# Altium footprint library jst.PcbLib: 39 footprints (part 2 of 3)
Each footprint in its own frame and in the unit in brackets; x right, y up, seen from the top. Pads: shape width x height; smd on the part's side, far side on the other; paste and mask are expansions set on the pad; w line width, h text height; cw(c..) or ccw(c..) is an arc to the next point about the centre after c.
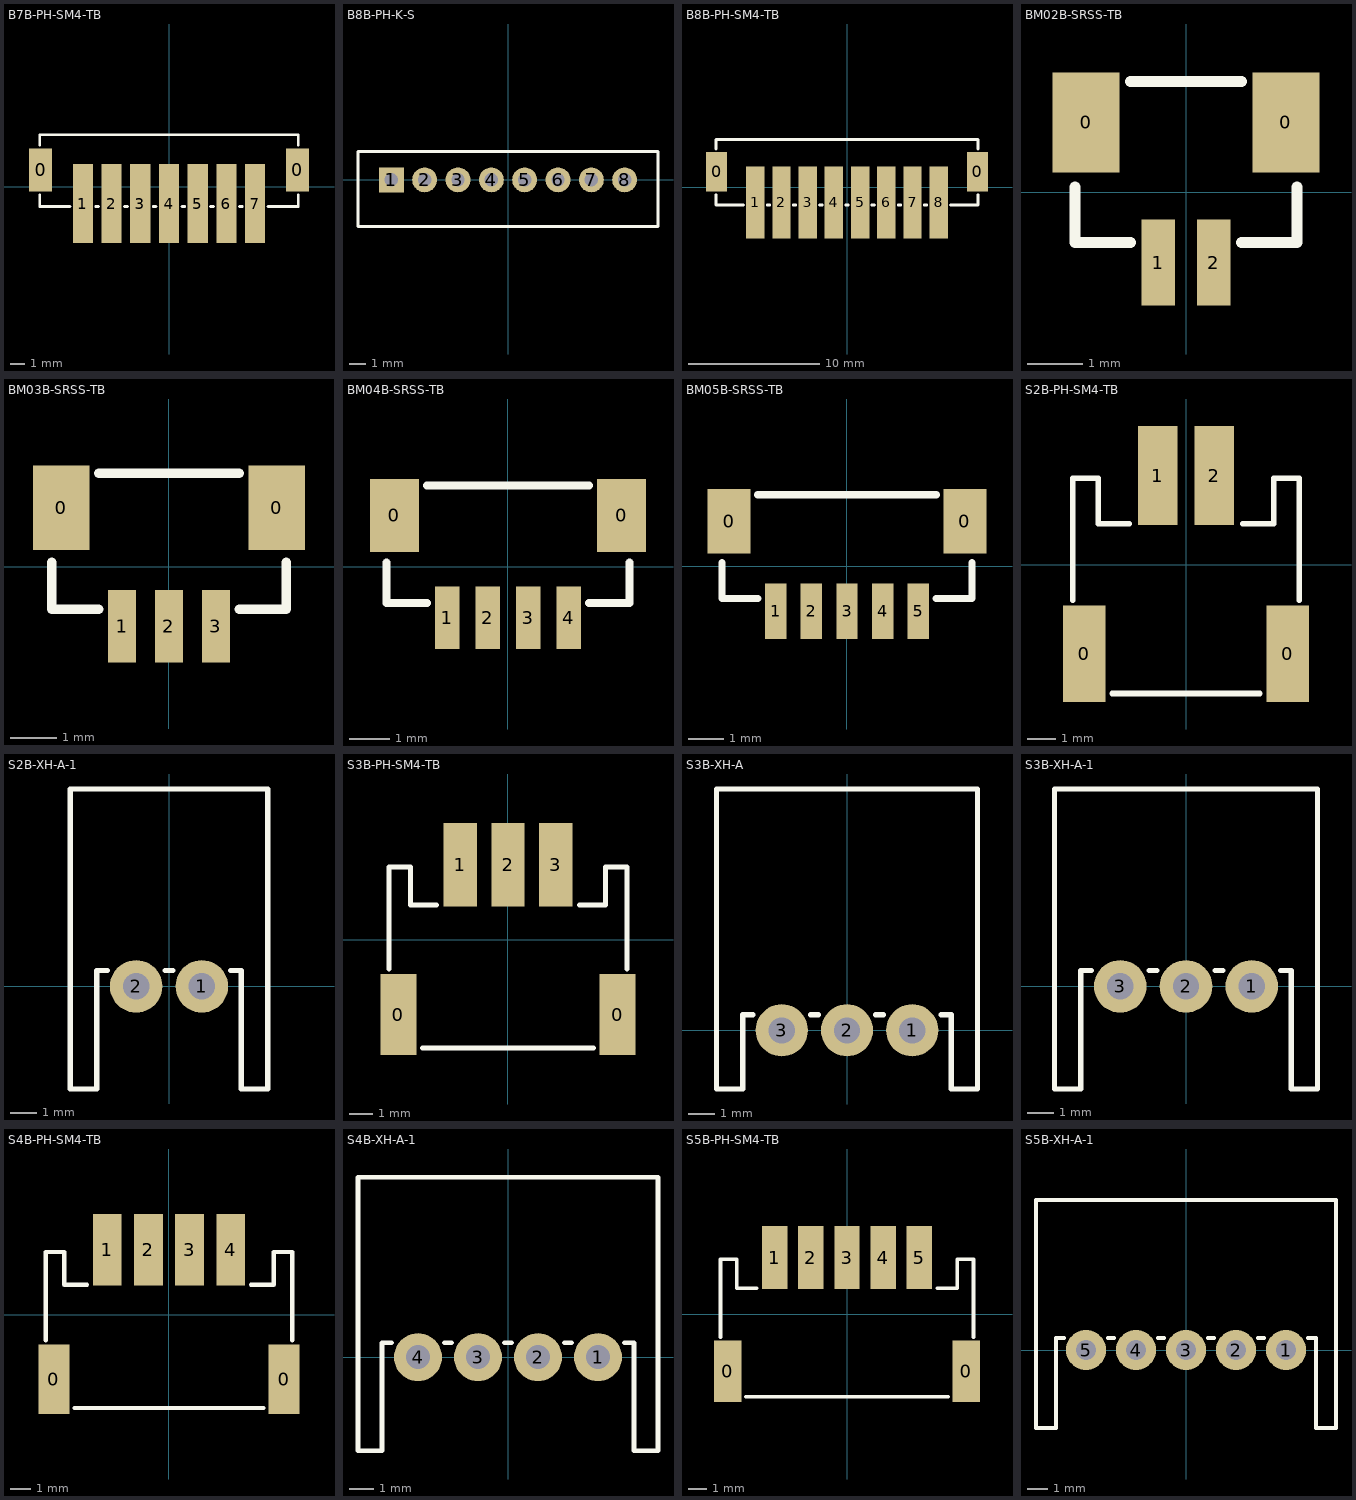
[diagram p1: the footprints below, top view; thin cyan lines are the x and y axes]

## B7B-PH-SM4-TB [mm]
pads (9):
  rect 1.6x3 smd: 0(-8.95,1.175) 0(8.95,1.175)
  rect 1.4x5.5 smd: 1(-6,-1.175) 2(-4,-1.175) 3(-2,-1.175) 4(0,-1.175) 5(2,-1.175) 6(4,-1.175) 7(6,-1.175)
Top Overlay:
  lines w0.2: -9,-0.575 -9,-1.375 -6.9,-1.375 ; -9,2.9 -9,3.625 9,3.625 9,2.9 ; -5.1,-1.375 -4.9,-1.375 ; -3.1,-1.375 -2.9,-1.375 ; -1.1,-1.375 -0.9,-1.375 ; 0.9,-1.375 1.1,-1.375 ; 2.9,-1.375 3.1,-1.375 ; 4.9,-1.375 5.1,-1.375 ; 6.9,-1.375 9,-1.375 9,-0.575
3D body "B7B-PH-SM4-TB.STEP": height 6.6, standoff 0, extent -8.975,-3.4 8.975,3.6

## B8B-PH-K-S [mm]
pads (8):
  rect 1.5x1.5 hole 0.8: 1(-7,0)
  round 1.5 hole 0.8: 2(-5,0) 3(-3,0) 4(-1,0) 5(1,0) 6(3,0) 7(5,0) 8(7,0)
Top Overlay:
  lines w0.2: -9,-2.8 9,-2.8 9,1.7 -9,1.7 -9,-2.8
3D body "B8B-PH-K-S.STEP": height 6, standoff -3.4, extent -8.95,-2.8 8.95,1.7

## B8B-PH-SM4-TB [mm]
pads (10):
  rect 1.6x3 smd: 0(-9.95,1.175) 0(9.95,1.175)
  rect 1.4x5.5 smd: 1(-7,-1.175) 2(-5,-1.175) 3(-3,-1.175) 4(-1,-1.175) 5(1,-1.175) 6(3,-1.175) 7(5,-1.175) 8(7,-1.175)
Top Overlay:
  lines w0.2: -10,-0.575 -10,-1.375 -7.9,-1.375 ; -10,2.9 -10,3.625 10,3.625 10,2.9 ; -6.1,-1.375 -5.9,-1.375 ; -4.1,-1.375 -3.9,-1.375 ; -2.1,-1.375 -1.9,-1.375 ; -0.1,-1.375 0.1,-1.375 ; 1.9,-1.375 2.1,-1.375 ; 3.9,-1.375 4.1,-1.375 ; 5.9,-1.375 6.1,-1.375 ; 7.9,-1.375 10,-1.375 10,-0.575
3D body "B8B-PH-SM4-TB.STEP": height 6.6, standoff 0, extent -9.975,-3.4 9.975,3.6

## BM02B-SRSS-TB [mm]
pads (4):
  rect 1.2x1.8 smd: 0(-1.8,1.263) 0(1.8,1.263)
  rect 0.6x1.55 smd: 1(-0.5,-1.262) 2(0.5,-1.262)
Top Overlay:
  lines w0.2: -2,0.1 -2,-0.9 -1,-0.9 ; -1,2 1,2 ; 1,-0.9 2,-0.9 2,0.1
3D body "BM02B-SRSS-TB.STEP": height 4.3, standoff -0.02, extent -2,-1.6 2,2

## BM03B-SRSS-TB [mm]
pads (5):
  rect 1.2x1.8 smd: 0(-2.3,1.263) 0(2.3,1.263)
  rect 0.6x1.55 smd: 1(-1,-1.262) 2(0,-1.262) 3(1,-1.262)
Top Overlay:
  lines w0.2: -2.5,0.1 -2.5,-0.9 -1.5,-0.9 ; -1.5,2 1.5,2 ; 1.5,-0.9 2.5,-0.9 2.5,0.1
3D body "BM03B-SRSS-TB.STEP": height 4.3, standoff -0.02, extent -2.5,-1.6 2.5,2

## BM04B-SRSS-TB [mm]
pads (6):
  rect 1.2x1.8 smd: 0(-2.8,1.263) 0(2.8,1.263)
  rect 0.6x1.55 smd: 1(-1.5,-1.262) 2(-0.5,-1.262) 3(0.5,-1.262) 4(1.5,-1.262)
Top Overlay:
  lines w0.2: -3,0.1 -3,-0.9 -2,-0.9 ; -2,2 2,2 ; 2,-0.9 3,-0.9 3,0.1
3D body "BM04B-SRSS-TB.STEP": height 4.3, standoff -0.02, extent -3,-1.6 3,2

## BM05B-SRSS-TB [mm]
pads (7):
  rect 1.2x1.8 smd: 0(-3.3,1.263) 0(3.3,1.263)
  rect 0.6x1.55 smd: 1(-2,-1.262) 2(-1,-1.262) 3(0,-1.262) 4(1,-1.262) 5(2,-1.262)
Top Overlay:
  lines w0.2: -3.5,0.1 -3.5,-0.9 -2.5,-0.9 ; -2.5,2 2.5,2 ; 2.5,-0.9 3.5,-0.9 3.5,0.1
3D body "BM05B-SRSS-TB.STEP": height 4.3, standoff -0.02, extent -3.5,-1.6 3.5,2

## S2B-PH-SM4-TB [mm]
pads (4):
  rect 1.5x3.4 smd: 0(-3.6,-3.15) 0(3.6,-3.15)
  rect 1.4x3.5 smd: 1(-1,3.15) 2(1,3.15)
Top Overlay:
  lines w0.2: -4,-1.25 -4,3.05 -3.1,3.05 -3.1,1.45 -2,1.45 ; -2.6,-4.55 2.6,-4.55 ; 2,1.45 3.1,1.45 3.1,3.05 4,3.05 4,-1.25
3D body "S2B-PH-SM4-TB.STEP": height 5.6, standoff 0, extent -3.95,-4.55 3.95,4.05

## S2B-XH-A-1 [mm]
pads (2):
  round 2 hole 1: 1(1.25,0) 2(-1.25,0)
Top Overlay:
  lines w0.2: -2.35,0.6 -2.75,0.6 -2.75,-3.9 -3.75,-3.9 -3.75,7.5 3.75,7.5 3.75,-3.9 2.75,-3.9 2.75,0.6 2.35,0.6 ; -0.15,0.6 0.15,0.6
3D body "S2B-XH-A-1.STEP": height 5.95, standoff -3.4, extent -3.7,-3.9 3.7,7.6

## S3B-PH-SM4-TB [mm]
pads (5):
  rect 1.5x3.4 smd: 0(-4.6,-3.15) 0(4.6,-3.15)
  rect 1.4x3.5 smd: 1(-2,3.15) 2(0,3.15) 3(2,3.15)
Top Overlay:
  lines w0.2: -5,-1.25 -5,3.05 -4.1,3.05 -4.1,1.45 -3,1.45 ; -3.6,-4.55 3.6,-4.55 ; 3,1.45 4.1,1.45 4.1,3.05 5,3.05 5,-1.25
3D body "S3B-PH-SM4-TB.STEP": height 5.6, standoff 0, extent -4.95,-4.55 4.95,4.05

## S3B-XH-A [mm]
pads (3):
  round 2 hole 1: 1(2.5,0) 2(0,0) 3(-2.5,0)
Top Overlay:
  lines w0.2: -3.6,0.6 -4,0.6 -4,-2.25 -5,-2.25 -5,9.25 5,9.25 5,-2.25 4,-2.25 4,0.6 3.6,0.6 ; -1.4,0.6 -1.1,0.6 ; 1.1,0.6 1.4,0.6
3D body "S3B-XH-A.STEP": height 6.15, standoff -3.4, extent -4.95,-2.25 4.95,9.25

## S3B-XH-A-1 [mm]
pads (3):
  round 2 hole 1: 1(2.5,0) 2(0,0) 3(-2.5,0)
Top Overlay:
  lines w0.2: -3.6,0.6 -4,0.6 -4,-3.9 -5,-3.9 -5,7.5 5,7.5 5,-3.9 4,-3.9 4,0.6 3.6,0.6 ; -1.4,0.6 -1.1,0.6 ; 1.1,0.6 1.4,0.6

## S4B-PH-SM4-TB [mm]
pads (6):
  rect 1.5x3.4 smd: 0(-5.6,-3.15) 0(5.6,-3.15)
  rect 1.4x3.5 smd: 1(-3,3.15) 2(-1,3.15) 3(1,3.15) 4(3,3.15)
Top Overlay:
  lines w0.2: -6,-1.25 -6,3.05 -5.1,3.05 -5.1,1.45 -4,1.45 ; -4.6,-4.55 4.6,-4.55 ; 4,1.45 5.1,1.45 5.1,3.05 6,3.05 6,-1.25
3D body "S4B-PH-SM4-TB.STEP": height 5.6, standoff 0, extent -5.95,-4.55 5.95,4.05

## S4B-XH-A-1 [mm]
pads (4):
  round 2 hole 1: 1(3.75,0) 2(1.25,0) 3(-1.25,0) 4(-3.75,0)
Top Overlay:
  lines w0.2: -4.85,0.6 -5.25,0.6 -5.25,-3.9 -6.25,-3.9 -6.25,7.5 6.25,7.5 6.25,-3.9 5.25,-3.9 5.25,0.6 4.85,0.6 ; -2.65,0.6 -2.35,0.6 ; -0.15,0.6 0.15,0.6 ; 2.35,0.6 2.65,0.6
3D body "S4B-XH-A-1.STEP": height 6.15, standoff -3.4, extent -6.2,-3.9 6.2,7.6

## S5B-PH-SM4-TB [mm]
pads (7):
  rect 1.5x3.4 smd: 0(-6.6,-3.15) 0(6.6,-3.15)
  rect 1.4x3.5 smd: 1(-4,3.15) 2(-2,3.15) 3(0,3.15) 4(2,3.15) 5(4,3.15)
Top Overlay:
  lines w0.2: -7,-1.25 -7,3.05 -6.1,3.05 -6.1,1.45 -5,1.45 ; -5.6,-4.55 5.6,-4.55 ; 5,1.45 6.1,1.45 6.1,3.05 7,3.05 7,-1.25
3D body "S5B-PH-SM4-TB.STEP": height 5.6, standoff 0, extent -6.95,-4.55 6.95,4.05

## S5B-XH-A-1 [mm]
pads (5):
  round 2 hole 1: 1(5,0) 2(2.5,0) 3(0,0) 4(-2.5,0) 5(-5,0)
Top Overlay:
  lines w0.2: -6.1,0.6 -6.5,0.6 -6.5,-3.9 -7.5,-3.9 -7.5,7.5 7.5,7.5 7.5,-3.9 6.5,-3.9 6.5,0.6 6.1,0.6 ; -3.9,0.6 -3.6,0.6 ; -1.4,0.6 -1.1,0.6 ; 1.1,0.6 1.4,0.6 ; 3.6,0.6 3.9,0.6
3D body "S5B-XH-A-1.STEP": height 6.15, standoff -3.4, extent -7.45,-3.9 7.45,7.6